# EAGLE library part AD7450A (library analog-devices_III)
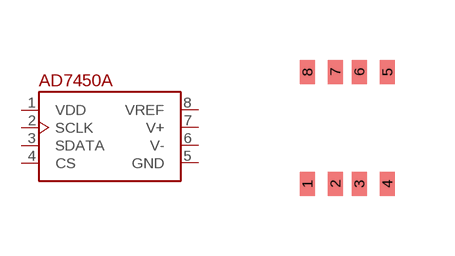
[diagram p31: symbol with the pads of SOT-23; footprint SOT-23]

Designator prefix -

## AD7450A  [SOT-23]
1  VDD  pwr
2  SCLK  in
3  SDATA  out
4  CS  in
5  GND  sup
6  V-  in
7  V+  in
8  VREF  pwr

## Footprint SOT-23 (pad centres in mm)
smd 0.38 x 0.6: 1 -1,-1.4; 2 -0.3,-1.4; 3 0.3,-1.4; 4 1,-1.4; 5 1,1.4; 6 0.3,1.4; 7 -0.3,1.4; 8 -1,1.4